# EAGLE library part MC33395* (library motorola-sensor-driver)
BLDC Motor Control, Three-Phase Gate Driver IC Source: http://www.freescale.com/files/analog/doc/data_sheet/MC33395.pdf
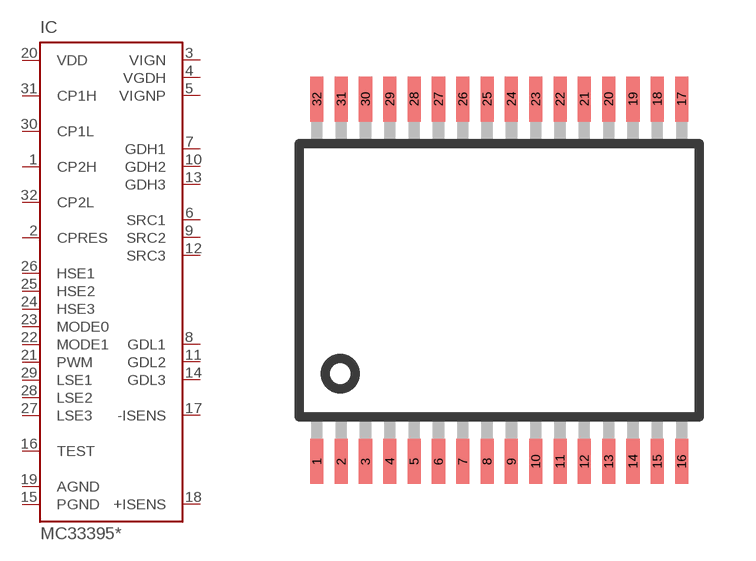
[diagram p0: symbol with the pads of SOICW32; footprint SOICW32]

Designator prefix IC

## MC33395DWB (OC_FARNELL: unknown; OC_NEWARK: unknown), MC33395TDWB (MPN: MC33395TEW; OC_FARNELL: 1380046; OC_NEWARK: 81K2764)  [SOICW32]
1  CP2H  pas
2  CPRES  pas
3  VIGN  pwr
4  VGDH  out
5  VIGNP  pas
6  SRC1  in
7  GDH1  out
8  GDL1  out
9  SRC2  in
10  GDH2  out
11  GDL2  out
12  SRC3  in
13  GDH3  out
14  GDL3  out
15  PGND  pwr
16  TEST  in
17  -ISENS  in
18  +ISENS  in
19  AGND  pwr
20  VDD  pwr
21  PWM  in
22  MODE1  in
23  MODE0  in
24  HSE3  in
25  HSE2  in
26  HSE1  in
27  LSE3  in
28  LSE2  in
29  LSE1  in
30  CP1L  pas
31  CP1H  pas
32  CP2L  pas

## Footprint SOICW32 (pad centres in mm)
Small Outline Package wide source www.motorola.com; BR1568.pdf
smd 0.35 x 1.2: 1 -4.875,-4.85; 2 -4.225,-4.85; 3 -3.575,-4.85; 4 -2.925,-4.85; 5 -2.275,-4.85; 6 -1.625,-4.85; 7 -0.975,-4.85; 8 -0.325,-4.85; 9 0.325,-4.85; 10 0.975,-4.85; 11 1.625,-4.85; 12 2.275,-4.85; 13 2.925,-4.85; 14 3.575,-4.85; 15 4.225,-4.85; 16 4.875,-4.85; 17 4.875,4.85; 18 4.225,4.85; 19 3.575,4.85; 20 2.925,4.85; 21 2.275,4.85; 22 1.625,4.85; 23 0.975,4.85; 24 0.325,4.85; 25 -0.325,4.85; 26 -0.975,4.85; 27 -1.625,4.85; 28 -2.275,4.85; 29 -2.925,4.85; 30 -3.575,4.85; 31 -4.225,4.85; 32 -4.875,4.85